# Altium schematic symbol library Connectors Rectangular 2.54 PB.SchLib: 14 symbols
Pins are listed as number, name and electrical type; pins without a type are passive.

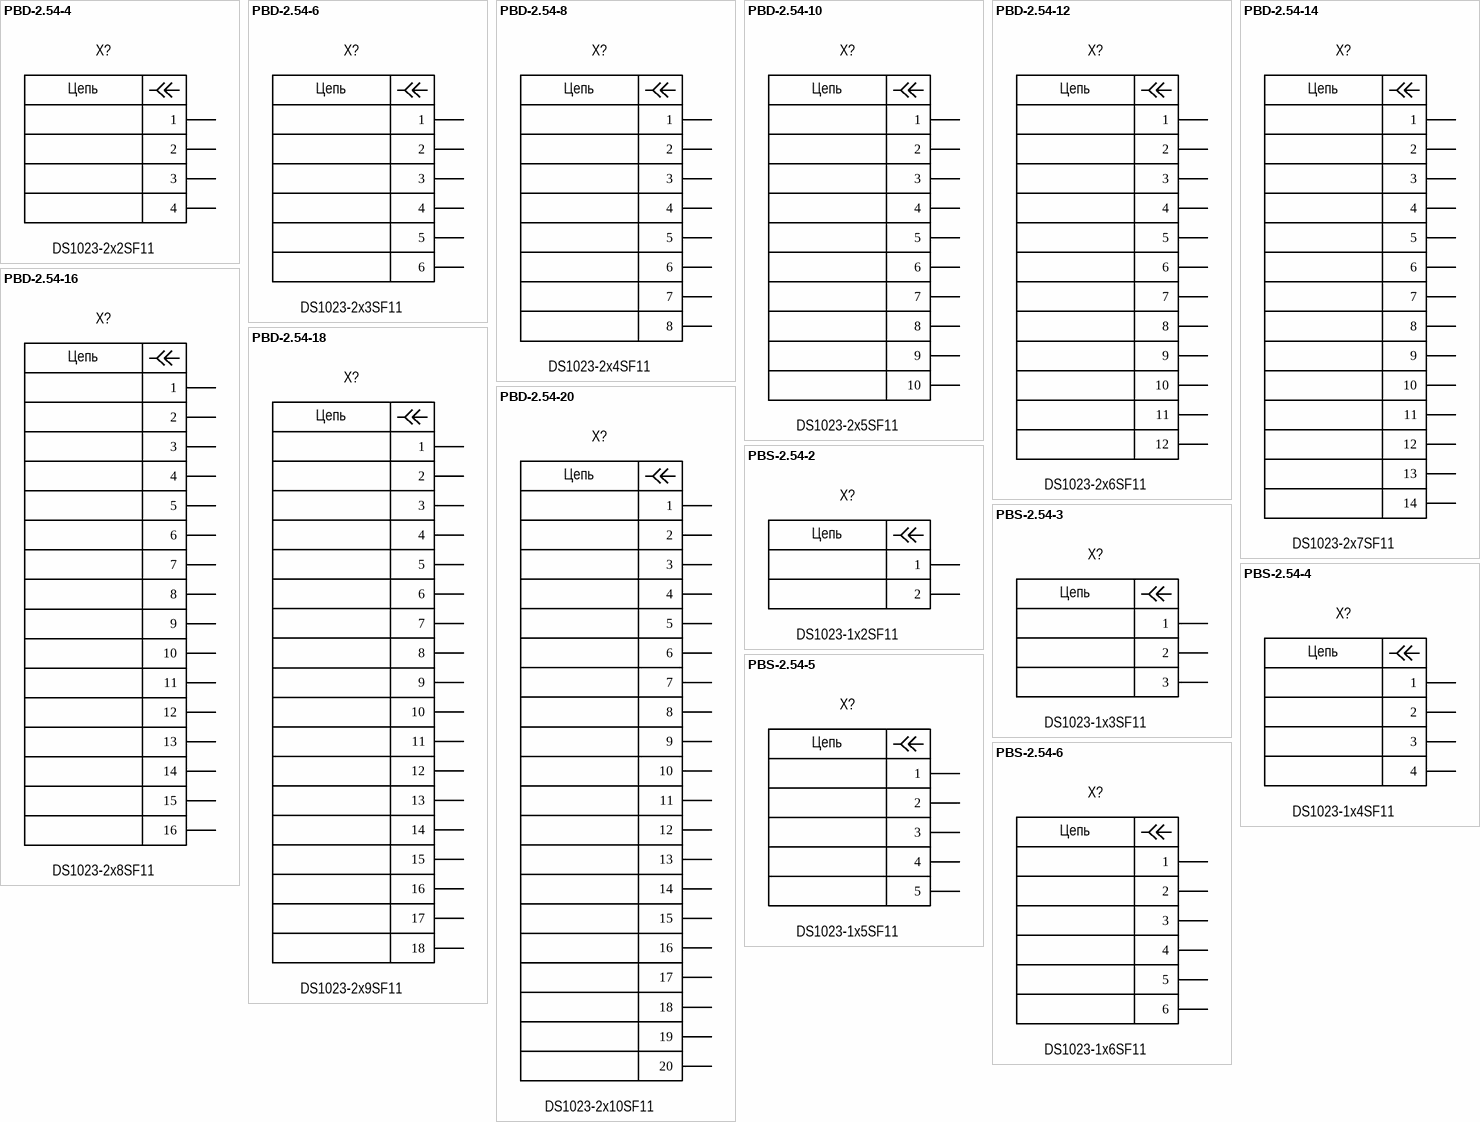
[diagram p0: symbols PBD-2.54-4 to PBS-2.54-6]

## PBD-2.54-4
designator X?, comment DS1023-2x2SF11
Connector Rectangular 2.54 F 4P2R Board PBD; Manufacturer: Connfly; Group: Mechanical; Pitch: 2.54mm; Positions: 4; Rows: 2; Current rating: 3.0A; Voltage rating: 250V; Placing: Vertical; Shrouding: Unshrouded; Connector type: Receptacle; Dimension: 5.08mm x 5.08mm; Operating temperature: -40°C +105°C; Mounting type: Through hole; Package: PBD-2.54-4; Part name: DS1023-2x2SF11; Height: 8.54mm; Insulation color: Black; Component: Connector Rectangular; Contact type: Female pin; Fastening type: Push-pull; Series: PBD; Connector style: Board; Series name: PBD; System: Connector
footprint PBD-2.54-4 (Footprint not found)
pins: 1, 2, 3, 4
text: Цепь

## PBD-2.54-6
designator X?, comment DS1023-2x3SF11
Connector Rectangular 2.54 F 6P2R Board PBD; Manufacturer: Connfly; Group: Mechanical; Pitch: 2.54mm; Positions: 6; Rows: 2; Current rating: 3.0A; Voltage rating: 250V; Placing: Vertical; Shrouding: Unshrouded; Connector type: Receptacle; Dimension: 5.08mm x 7.62mm; Operating temperature: -40°C +105°C; Mounting type: Through hole; Package: PBD-2.54-6; Part name: DS1023-2x3SF11; Height: 8.54mm; Insulation color: Black; Component: Connector Rectangular; Contact type: Female pin; Fastening type: Push-pull; Series: PBD; Connector style: Board; Series name: PBD; System: Connector
footprint PBD-2.54-6
pins: 1, 2, 3, 4, 5, 6
text: Цепь

## PBD-2.54-8
designator X?, comment DS1023-2x4SF11
Connector Rectangular 2.54 F 8P2R Board PBD; Manufacturer: Connfly; Group: Mechanical; Pitch: 2.54mm; Positions: 8; Rows: 2; Current rating: 3.0A; Voltage rating: 250V; Placing: Vertical; Shrouding: Unshrouded; Connector type: Receptacle; Dimension: 5.08mm x 10.16mm; Operating temperature: -40°C +105°C; Mounting type: Through hole; Package: PBD-2.54-8; Part name: DS1023-2x4SF11; Height: 8.54mm; Insulation color: Black; Component: Connector Rectangular; Contact type: Female pin; Fastening type: Push-pull; Series: PBD; Connector style: Board; Series name: PBD; System: Connector
footprint PBD-2.54-8
pins: 1, 2, 3, 4, 5, 6, 7, 8
text: Цепь

## PBD-2.54-10
designator X?, comment DS1023-2x5SF11
Connector Rectangular 2.54 F 10P2R Board PBD; Manufacturer: Connfly; Group: Mechanical; Pitch: 2.54mm; Positions: 10; Rows: 2; Current rating: 3.0A; Voltage rating: 250V; Placing: Vertical; Shrouding: Unshrouded; Connector type: Receptacle; Dimension: 5.08mm x 12.70mm; Operating temperature: -40°C +105°C; Mounting type: Through hole; Package: PBD-2.54-10; Part name: DS1023-2x5SF11; Height: 8.54mm; Insulation color: Black; Component: Connector Rectangular; Contact type: Female pin; Fastening type: Push-pull; Series: PBD; Connector style: Board; Series name: PBD; System: Connector
footprint PBD-2.54-10
pins: 1, 2, 3, 4, 5, 6, 7, 8, 9, 10
text: Цепь

## PBD-2.54-12
designator X?, comment DS1023-2x6SF11
Connector Rectangular 2.54 F 12P2R Board PBD; Manufacturer: Connfly; Group: Mechanical; Pitch: 2.54mm; Positions: 12; Rows: 2; Current rating: 3.0A; Voltage rating: 250V; Placing: Vertical; Shrouding: Unshrouded; Connector type: Receptacle; Dimension: 5.08mm x 15.25mm; Operating temperature: -40°C +105°C; Mounting type: Through hole; Package: PBD-2.54-12; Part name: DS1023-2x6SF11; Height: 8.54mm; Insulation color: Black; Component: Connector Rectangular; Contact type: Female pin; Fastening type: Push-pull; Series: PBD; Connector style: Board; Series name: PBD; System: Connector
footprint PBD-2.54-12
pins: 1, 2, 3, 4, 5, 6, 7, 8, 9, 10, 11, 12
text: Цепь

## PBD-2.54-14
designator X?, comment DS1023-2x7SF11
Connector Rectangular 2.54 F 14P2R Board PBD; Manufacturer: Connfly; Group: Mechanical; Pitch: 2.54mm; Positions: 14; Rows: 2; Current rating: 3.0A; Voltage rating: 250V; Placing: Vertical; Shrouding: Unshrouded; Connector type: Receptacle; Dimension: 5.08mm x 17.78mm; Operating temperature: -40°C +105°C; Mounting type: Through hole; Package: PBD-2.54-14; Part name: DS1023-2x7SF11; Height: 8.54mm; Insulation color: Black; Component: Connector Rectangular; Contact type: Female pin; Fastening type: Push-pull; Series: PBD; Connector style: Board; Series name: PBD; System: Connector
footprint PBD-2.54-14
pins: 1, 2, 3, 4, 5, 6, 7, 8, 9, 10, 11, 12, 13, 14
text: Цепь

## PBD-2.54-16
designator X?, comment DS1023-2x8SF11
Connector Rectangular 2.54 F 16P2R Board PBD; Manufacturer: Connfly; Group: Mechanical; Pitch: 2.54mm; Positions: 16; Rows: 2; Current rating: 3.0A; Voltage rating: 250V; Placing: Vertical; Shrouding: Unshrouded; Connector type: Receptacle; Dimension: 5.08mm x 20.32mm; Operating temperature: -40°C +105°C; Mounting type: Through hole; Package: PBD-2.54-16; Part name: DS1023-2x8SF11; Height: 8.54mm; Insulation color: Black; Component: Connector Rectangular; Contact type: Female pin; Fastening type: Push-pull; Series: PBD; Connector style: Board; Series name: PBD; System: Connector
footprint PBD-2.54-16
pins: 1, 2, 3, 4, 5, 6, 7, 8, 9, 10, 11, 12, 13, 14, 15, 16
text: Цепь

## PBD-2.54-18
designator X?, comment DS1023-2x9SF11
Connector Rectangular 2.54 F 18P2R Board PBD; Manufacturer: Connfly; Group: Mechanical; Pitch: 2.54mm; Positions: 18; Rows: 2; Current rating: 3.0A; Voltage rating: 250V; Placing: Vertical; Shrouding: Unshrouded; Connector type: Receptacle; Dimension: 5.08mm x 22.86mm; Operating temperature: -40°C +105°C; Mounting type: Through hole; Package: PBD-2.54-18; Part name: DS1023-2x9SF11; Height: 8.54mm; Insulation color: Black; Component: Connector Rectangular; Contact type: Female pin; Fastening type: Push-pull; Series: PBD; Connector style: Board; Series name: PBD; System: Connector
footprint PBD-2.54-18
pins: 1, 2, 3, 4, 5, 6, 7, 8, 9, 10, 11, 12, 13, 14, 15, 16, 17, 18
text: Цепь

## PBD-2.54-20
designator X?, comment DS1023-2x10SF11
Connector Rectangular 2.54 F 20P2R Board PBD; Manufacturer: Connfly; Group: Mechanical; Pitch: 2.54mm; Positions: 20; Rows: 2; Current rating: 3.0A; Voltage rating: 250V; Placing: Vertical; Shrouding: Unshrouded; Connector type: Receptacle; Dimension: 5.08mm x 25.40mm; Operating temperature: -40°C +105°C; Mounting type: Through hole; Package: PBD-2.54-20; Part name: DS1023-2x10SF11; Height: 8.54mm; Insulation color: Black; Component: Connector Rectangular; Contact type: Female pin; Fastening type: Push-pull; Series: PBD; Connector style: Board; Series name: PBD; System: Connector
footprint PBD-2.54-20
pins: 1, 2, 3, 4, 5, 6, 7, 8, 9, 10, 11, 12, 13, 14, 15, 16, 17, 18, 19, 20
text: Цепь

## PBS-2.54-2
designator X?, comment DS1023-1x2SF11
Connector Rectangular 2.54 F 2P Board PBS; Manufacturer: Connfly; Group: Mechanical; Pitch: 2.54mm; Positions: 2; Rows: 1; Current rating: 3.0A; Voltage rating: 250V; Placing: Vertical; Shrouding: Unshrouded; Connector type: Receptacle; Dimension: 2.54mm x 5.08mm; Operating temperature: -40°C +105°C; Mounting type: Through hole; Package: PBS-2.54-2; Part name: DS1023-1x2SF11; Height: 8.54mm; Insulation color: Black; Component: Connector Rectangular; Contact type: Female pin; Fastening type: Push-pull; Series: PBS; Connector style: Board; Series name: PBS; System: Connector
footprint PBS-2.54-2
pins: 1, 2
text: Цепь

## PBS-2.54-3
designator X?, comment DS1023-1x3SF11
Connector Rectangular 2.54 F 3P Board PBS; Manufacturer: Connfly; Group: Mechanical; Pitch: 2.54mm; Positions: 3; Rows: 1; Current rating: 3.0A; Voltage rating: 250V; Placing: Vertical; Shrouding: Unshrouded; Connector type: Receptacle; Dimension: 2.54mm x 7.62mm; Operating temperature: -40°C +105°C; Mounting type: Through hole; Package: PBS-2.54-3; Part name: DS1023-1x3SF11; Height: 8.54mm; Insulation color: Black; Component: Connector Rectangular; Contact type: Female pin; Fastening type: Push-pull; Series: PBS; Connector style: Board; Series name: PBS; System: Connector
footprint PBS-2.54-3
pins: 1, 2, 3
text: Цепь

## PBS-2.54-4
designator X?, comment DS1023-1x4SF11
Connector Rectangular 2.54 F 4P Board PBS; Manufacturer: Connfly; Group: Mechanical; Pitch: 2.54mm; Positions: 4; Rows: 1; Current rating: 3.0A; Voltage rating: 250V; Placing: Vertical; Shrouding: Unshrouded; Connector type: Receptacle; Dimension: 2.54mm x 10.16mm; Operating temperature: -40°C +105°C; Mounting type: Through hole; Package: PBS-2.54-4; Part name: DS1023-1x4SF11; Height: 8.54mm; Insulation color: Black; Component: Connector Rectangular; Contact type: Female pin; Fastening type: Push-pull; Series: PBS; Connector style: Board; Series name: PBS; System: Connector
footprint PBS-2.54-4
pins: 1, 2, 3, 4
text: Цепь

## PBS-2.54-5
designator X?, comment DS1023-1x5SF11
Connector Rectangular 2.54 F 5P Board PBS; Manufacturer: Connfly; Group: Mechanical; Pitch: 2.54mm; Positions: 5; Rows: 1; Current rating: 3.0A; Voltage rating: 250V; Placing: Vertical; Shrouding: Unshrouded; Connector type: Receptacle; Dimension: 2.54mm x 12.70mm; Operating temperature: -40°C +105°C; Mounting type: Through hole; Package: PBS-2.54-5; Part name: DS1023-1x5SF11; Height: 8.54mm; Insulation color: Black; Component: Connector Rectangular; Contact type: Female pin; Fastening type: Push-pull; Series: PBS; Connector style: Board; Series name: PBS; System: Connector
footprint PBS-2.54-5
pins: 1, 2, 3, 4, 5
text: Цепь

## PBS-2.54-6
designator X?, comment DS1023-1x6SF11
Connector Rectangular 2.54 F 6P Board PBS; Manufacturer: Connfly; Group: Mechanical; Pitch: 2.54mm; Positions: 6; Rows: 1; Current rating: 3.0A; Voltage rating: 250V; Placing: Vertical; Shrouding: Unshrouded; Connector type: Receptacle; Dimension: 2.54mm x 15.24mm; Operating temperature: -40°C +105°C; Mounting type: Through hole; Package: PBS-2.54-6; Part name: DS1023-1x6SF11; Height: 8.54mm; Insulation color: Black; Component: Connector Rectangular; Contact type: Female pin; Fastening type: Push-pull; Series: PBS; Connector style: Board; Series name: PBS; System: Connector
footprint PBS-2.54-6
pins: 1, 2, 3, 4, 5, 6
text: Цепь